# Altium schematic symbol library lib_ic_DIO.SchLib: 15 symbols
Pins are listed as number, name and electrical type; pins without a type are passive.

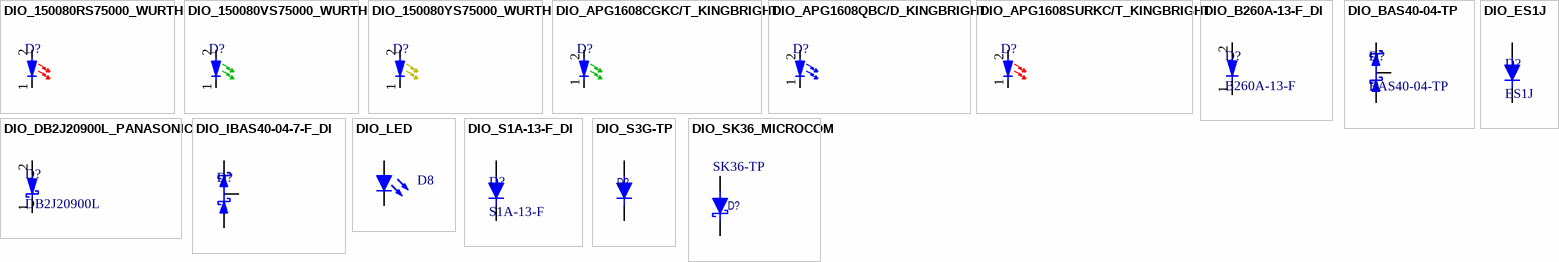
[diagram p0: symbols DIO_150080RS75000_WURTH to DIO_SK36_MICROCOM]

## DIO_150080RS75000_WURTH
designator D?  (value not drawn)
LED RED CLEAR 0805 SMD; Manufacturer: Wurth Electronics Inc.; Manufacturer Part Number: 150080RS75000; Digikey Part Number: 732-4984-1-ND; Mouser Part Number: 710-150080RS75000
footprint DIO0805 (Chip Capacitor, 0805, Body 2.0x1.3mm, IPC Medium Density)
pins: 1 Cathode, 2 Anode

## DIO_150080VS75000_WURTH
designator D?  (value not drawn)
LED GREEN CLEAR 0805 SMD; Manufacturer: Wurth Electronics Inc.; Manufacturer Part Number: 150080VS75000; Digikey Part Number: 732-4986-1-ND; Mouser Part Number: 710-150080VS75000
footprint DIO0805 (Chip Capacitor, 0805, Body 2.0x1.3mm, IPC Medium Density)
pins: 1 Cathode, 2 Anode

## DIO_150080YS75000_WURTH
designator D?  (value not drawn)
LED YELLOW CLEAR 0805 SMD; Manufacturer: Wurth Electronics Inc.; Manufacturer Part Number: 150080YS75000; Digikey Part Number: 732-4987-1-ND; Mouser Part Number: 710-150080YS75000
footprint DIO0805 (Chip Capacitor, 0805, Body 2.0x1.3mm, IPC Medium Density)
pins: 1 Cathode, 2 Anode

## DIO_APG1608CGKC/T_KINGBRIGHT
designator D?  (value not drawn)
LED 1.6X0.8MM 571NM GRN CLR SMD; Manufacturer: Kingbright Company LLC; Manufacturer Part Number: APG1608CGKC/T; Digikey Part Number: 754-1357-1-ND; Mouser Part Number: *
footprint LEDM1608X075N (Molded LED, 0603, Body: 1.6mm X 0.8mm)
pins: 1 Cathode, 2 Anode

## DIO_APG1608QBC/D_KINGBRIGHT
designator D?  (value not drawn)
LED 1.6X0.8MM 470NM BLUE CLR SMD; Manufacturer: Kingbright Company LLC; Manufacturer Part Number: APG1608QBC/D; Digikey Part Number: 754-1351-1-ND; Mouser Part Number: *
footprint LEDM1608X075N (Molded LED, 0603, Body: 1.6mm X 0.8mm)
pins: 1 Cathode, 2 Anode

## DIO_APG1608SURKC/T_KINGBRIGHT
designator D?  (value not drawn)
LED 1.6X0.8MM 631NM RED CLR SMD; Manufacturer: Kingbright Company LLC; Manufacturer Part Number: APG1608SURKC/T; Digikey Part Number: 754-1359-1-ND; Mouser Part Number: *
footprint LEDM1608X075N (Molded LED, 0603, Body: 1.6mm X 0.8mm)
pins: 1 Cathode, 2 Anode

## DIO_B260A-13-F_DI
designator D?, comment B260A-13-F
DIODE SCHOTTKY 60V 2A SMA; Manufacturer: Diodes Incorporated; Digikey Part Number: B260A-FDICT-ND; Manufacturer Part Number: B260A-13-F; Mouser Part Number: 621-B260A-F
footprint DIOM430260X215N (SMA (DO-214AC) // Source: AP02001 Rev. 37 - Recommended Pad Layout per IPC-7351A, Diodes Inc)
pins: 1 K, 2 A

## DIO_BAS40-04-TP
designator D?, comment BAS40-04-TP
DIODE ARRAY SCHOTTKY 40V SOT23; Manufacturer: MCC; Max Surge Current: 600mA; Recovery Time: 5ns; Forward Current: 200mA; Forward Voltage: 1V; Max Reverse Leakage Current: 200nA; Power Dissipation: 200mW; Capacitance: 5pF; Element Configuration: Single; Supplier 1: Digi-Key; Manufacturer Part Number: BAS40-04-TP; RoHS: Yes; Category: Rectifier Diodes; Stock 1: 1037806; Pricing 1: 1=0,24000, 10=0,19400, 100=0,07920, 500=0,06606, 1000=0,04590 (USD); Mount: Surface Mount; Case/Package: SOT-23; Number of Pins: 3; Min Operating Temperature: -55°C; Max Operating Temperature: 125°C; Package Quantity: 3000; Packaging: Tape and Reel; Average Rectified Current: 200mA; Reverse Recovery Time: 5ns; Max Forward Surge Current (Ifsm): 600mA; Max Reverse Current: 200nA; Max Repetitive Reverse Voltage (Vrrm): 40V; Peak Non-Repetitive Surge Current: 600mA; Max Reverse Voltage (DC): 40V; Length: 3.04mm; Width: 1.4mm; Height: 1.02mm; Radiation Hardening: No; REACH SVHC: Unknown; Lead Free: Lead Free; ComponentLink1URL: https://datasheet.ciiva.com/4716/bas40-bas70sot-23-28891-4716000.pdf?src-supplier=Mouser; ComponentLink1Description: https://datasheet.ciiva.com/4716/bas40-bas70sot-23-28891-4716000.pdf?src-supplier=Mouser; ComponentLink2URL: https://datasheet.ciiva.com/23684/1684803-23684306.pdf?src-supplier=Newark; ComponentLink2Description: https://datasheet.ciiva.com/23684/1684803-23684306.pdf?src-supplier=Newark; ComponentLink3URL: https://datasheet.ciiva.com/906/bas40-bas70sot-23-906320.pdf?src-supplier=Digi-Key; ComponentLink3Description: https://datasheet.ciiva.com/906/bas40-bas70sot-23-906320.pdf?src-supplier=Digi-Key; ComponentLink4URL: https://datasheet.ciiva.com/15200/getdatasheetpartid-226544-15200426.pdf?src-supplier=Verical; ComponentLink4Description: https://datasheet.ciiva.com/15200/getdatasheetpartid-226544-15200426.pdf?src-supplier=Verical; ComponentLink5URL: https://datasheet.ciiva.com/7624/1684803-7624699.pdf?src-supplier=Element14; ComponentLink5Description: https://datasheet.ciiva.com/7624/1684803-7624699.pdf?src-supplier=Element14; ComponentLink6URL: https://datasheet.ciiva.com/906/bas40-bas70sot-23-906318.pdf?src-supplier=Digi-Key; ComponentLink6Description: https://datasheet.ciiva.com/906/bas40-bas70sot-23-906318.pdf?src-supplier=Digi-Key; ComponentLink7URL: https://datasheet.ciiva.com/906/bas40-bas70sot-23-906319.pdf?src-supplier=Digi-Key; ComponentLink7Description: https://datasheet.ciiva.com/906/bas40-bas70sot-23-906319.pdf?src-supplier=Digi-Key; Supplier Part Number 1: BAS40-04TPMSCT-ND
footprint SOT23-3M (SOT23, 3-Leads, Body 2.9x1.3mm, Pitch 0.95mm, Lead Span 2.5mm, IPC Low Density)
pins: 1, 2, 3

## DIO_DB2J20900L_PANASONIC
designator D?, comment DB2J20900L
DIODE SCHOTTKY 20V 500MA SMINI2; Manufacturer: Panasonic; Digikey Part Number: DB2J20900LCT-ND; Manufacturer Part Number: DB2J20900L; Mouser Part Number: 667-DB2J20900L
footprint SOD2512X097N (SOD-323, 2 Lead, Conforming to JEITA SC90 standard // Source: SOD-323 Package 2008, Fairchild)
pins: 1 K, 2 A

## DIO_ES1J
designator D?, comment ES1J
Diode Switching 600V 1A 2-Pin DO-214AC T/R; Manufacturer: ON Semiconductor / Fairchild; Element Configuration: Single; Forward Voltage: 1.7V; Reverse Recovery Time: 35ns; Peak Non-Repetitive Surge Current: 30A; Max Reverse Current: 5uA; Supplier 1: Digi-Key; Supplier Part Number 1: ES1JFSCT-ND; Manufacturer Part Number: ES1J; RoHS: Yes; Category: Rectifier Diodes; Stock 1: 104682; Pricing 1: 1=0,34000, 10=0,22400, 100=0,11200, 500=0,08320, 1000=0,06080, 2000=0,05920 (USD); Mount: Surface Mount; Case/Package: SMA; Number of Pins: 2; Contact Plating: Tin,Matte; Min Operating Temperature: -55°C; Max Operating Temperature: 150°C; Packaging: Tape and Reel; Max Repetitive Reverse Voltage (Vrrm): 600V; Average Rectified Current: 1A; Max Reverse Voltage (DC): 600V; Forward Current: 1A; Max Forward Surge Current (Ifsm): 30A; Package Quantity: 7500; Max Surge Current: 30A; Recovery Time: 35ns; Termination: SMD/SMT; Reverse Voltage: 600V; Current: 1A; Voltage: 600V; Length: 4.6mm; Height: 2.438mm; Width: 2.896mm; Radiation Hardening: No; Lead Free: Lead Free; REACH SVHC: No SVHC; ComponentLink1URL: https://datasheet.ciiva.com/30479/0900766b810e1d0a-30479414.pdf?src-supplier=RSComponents; ComponentLink1Description: https://datasheet.ciiva.com/30479/0900766b810e1d0a-30479414.pdf?src-supplier=RSComponents; ComponentLink2URL: https://datasheet.ciiva.com/8303/es1j-8303717.pdf?src-supplier=Avnet; ComponentLink2Description: https://datasheet.ciiva.com/8303/es1j-8303717.pdf?src-supplier=Avnet; ComponentLink3URL: https://datasheet.ciiva.com/910/es1f-910582.pdf?src-supplier=Digi-Key; ComponentLink3Description: https://datasheet.ciiva.com/910/es1f-910582.pdf?src-supplier=Digi-Key; ComponentLink4URL: https://datasheet.ciiva.com/910/es1f-910583.pdf?src-supplier=Digi-Key; ComponentLink4Description: https://datasheet.ciiva.com/910/es1f-910583.pdf?src-supplier=Digi-Key; ComponentLink5URL: https://datasheet.ciiva.com/25951/es1j-25951455.pdf?src-supplier=Avnet+Europe; ComponentLink5Description: https://datasheet.ciiva.com/25951/es1j-25951455.pdf?src-supplier=Avnet+Europe
footprint DIO_ES1J
pins: A, K

## DIO_IBAS40-04-7-F_DI
designator D?  (value not drawn)
DIODE ARRAY SCHOTTKY 40V SOT23-3; Manufacturer Part Number: BAS40-04-7-F; Manufacturer: Diodes Incorporated; Digikey Part Number: BAS40-04FDICT-ND; Mouser Part Number: 621-BAS40-04-F
footprint SOT23-3M (SOT23, 3-Leads, Body 2.9x1.3mm, Pitch 0.95mm, Lead Span 2.5mm, IPC Low Density)
pins: 1, 2, 3

## DIO_LED
designator D8  (value not drawn)
Diode Led
footprint Led
pins: 1 A, 2 K

## DIO_S1A-13-F_DI
designator D?, comment S1A-13-F
DIODE GEN PURP 50V 1A SMA; Manufacturer: Diodes Incorporated; Digikey Part Number: S1A-FDICT-ND; Manufacturer Part Number: S1A-13-F; Mouser Part Number: 621-S1A-F
footprint DIOM430260X215N (SMA (DO-214AC) // Source: AP02001 Rev. 37 - Recommended Pad Layout per IPC-7351A, Diodes Inc)
pins: 1 K, 2 A

## DIO_S3G-TP
designator D?, comment S3G-TP  (value not drawn)
DIODE GEN PURP 400V 3A DO214AB; Manufacturer: MCC; Max Reverse Current: 10uA; Polarity: Standard; Capacitance: 60pF; Element Configuration: Single; Max Surge Current: 100A; Supplier 1: Digi-Key; Supplier Part Number 1: S3G-TPMSCT-ND; Manufacturer Part Number: S3G-TP; RoHS: Yes; Category: Rectifier Diodes; Stock 1: 5686; Pricing 1: 1=0,45000, 10=0,33500, 100=0,23400, 500=0,14820, 1000=0,12090 (USD); Mount: Surface Mount; Number of Pins: 2; Min Operating Temperature: -55°C; Max Operating Temperature: 150°C; Average Rectified Current: 3A; Voltage Rating (DC): 400V; Current Rating: 3A; Output Current: 3A; Package Quantity: 1; Packaging: Tape and Reel; Max Reverse Voltage (DC): 400V; Reverse Voltage: 400V; Lead Free: Lead Free; ComponentLink1URL: https://datasheet.ciiva.com/914/s3a-s3mdo-214ab-914528.pdf?src-supplier=Digi-Key; ComponentLink1Description: https://datasheet.ciiva.com/914/s3a-s3mdo-214ab-914528.pdf?src-supplier=Digi-Key; ComponentLink2URL: https://datasheet.ciiva.com/914/s3a-s3mdo-214ab-914529.pdf?src-supplier=Digi-Key; ComponentLink2Description: https://datasheet.ciiva.com/914/s3a-s3mdo-214ab-914529.pdf?src-supplier=Digi-Key; ComponentLink3URL: https://datasheet.ciiva.com/914/s3a-s3mdo-214ab-914527.pdf?src-supplier=Digi-Key; ComponentLink3Description: https://datasheet.ciiva.com/914/s3a-s3mdo-214ab-914527.pdf?src-supplier=Digi-Key
footprint DIO_S3G-TP
pins: 1 K, 2 A

## DIO_SK36_MICROCOM
designator D?, comment SK36-TP
DIODE SCHOTTKY 60V 3A SMC; Manufacturer: Micro Commercial Co; Digikey Part Number: SK36-TPMSCT-ND; Manufacturer Part Number: SK36-TP; Mouser Part Number: 833-SK36-TP
footprint DIOM7959X262N (Molded Diode, JEDEC DO-214AB (SMC), 7.9mmX5.9mm)
pins: 1 K, 2 A